# Altium schematic symbol library CRCW08051K00JNEA.SchLib: 2 symbols
Pins are listed as number, name and electrical type; pins without a type are passive.

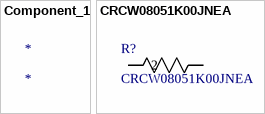
[diagram p0: symbols Component_1 to CRCW08051K00JNEA]

## Component_1
designator *

## CRCW08051K00JNEA
designator R?
No Description Available; Mfr_Name: Vishay; Copyright: Copyright (C) 2023 Ultra Librarian. All rights reserved.; Manufacturer_Part_Number: CRCW08051K00JNEA; RefDes: RefDes; Type: DEV
footprint RC0805N_VIS
pins: 1, 2